# EAGLE library part ADC121C021CIMK (library bucket)
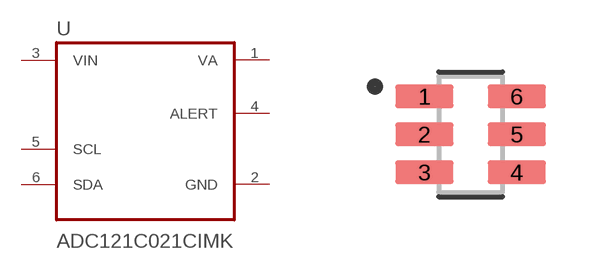
[diagram p3: symbol with the pads of SOT95P280X110-6N; footprint SOT95P280X110-6N]

Designator prefix U

## ADC121C021CIMK  [SOT95P280X110-6N]
1  VA  pwr
2  GND  pwr
3  VIN  in
4  ALERT  out
5  SCL  in
6  SDA

## Footprint SOT95P280X110-6N (pad centres in mm)
smd 1.45 x 0.59: 1 -1.155,0.95; 2 -1.155,0; 3 -1.155,-0.95; 4 1.155,-0.95; 5 1.155,0; 6 1.155,0.95